# EAGLE library part ETH_ADAPTER (library Btz)
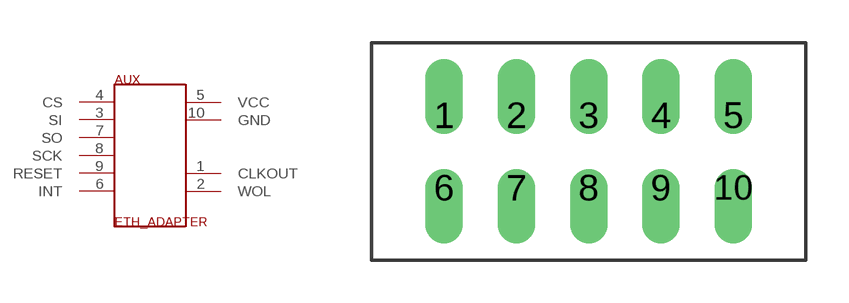
[diagram p2: symbol with the pads of PINHEAD5X5; footprint PINHEAD5X5]

Designator prefix AUX

## ETH_ADAPTER  [PINHEAD5X5]
1  CLKOUT  out
2  WOL
3  SI
4  CS
5  VCC  pwr
6  INT
7  SO
8  SCK
9  RESET
10  GND  sup

## Footprint PINHEAD5X5 (pad centres in mm)
drill 0.8 offset: 1 -5.08,0; 2 -2.54,0; 3 0,0; 4 2.54,0; 5 5.08,0; 6 -5.08,-2.54; 7 -2.54,-2.54; 8 0,-2.54; 9 2.54,-2.54; 10 5.08,-2.54